# Altium footprint library CQFP_Sq_127P_Side_N.PcbLib: 8 footprints
Each footprint in its own frame and in the unit in brackets; x right, y up, seen from the top. Pads: shape width x height; smd on the part's side, far side on the other; paste and mask are expansions set on the pad; w line width, h text height; cw(c..) or ccw(c..) is an arc to the next point about the centre after c.
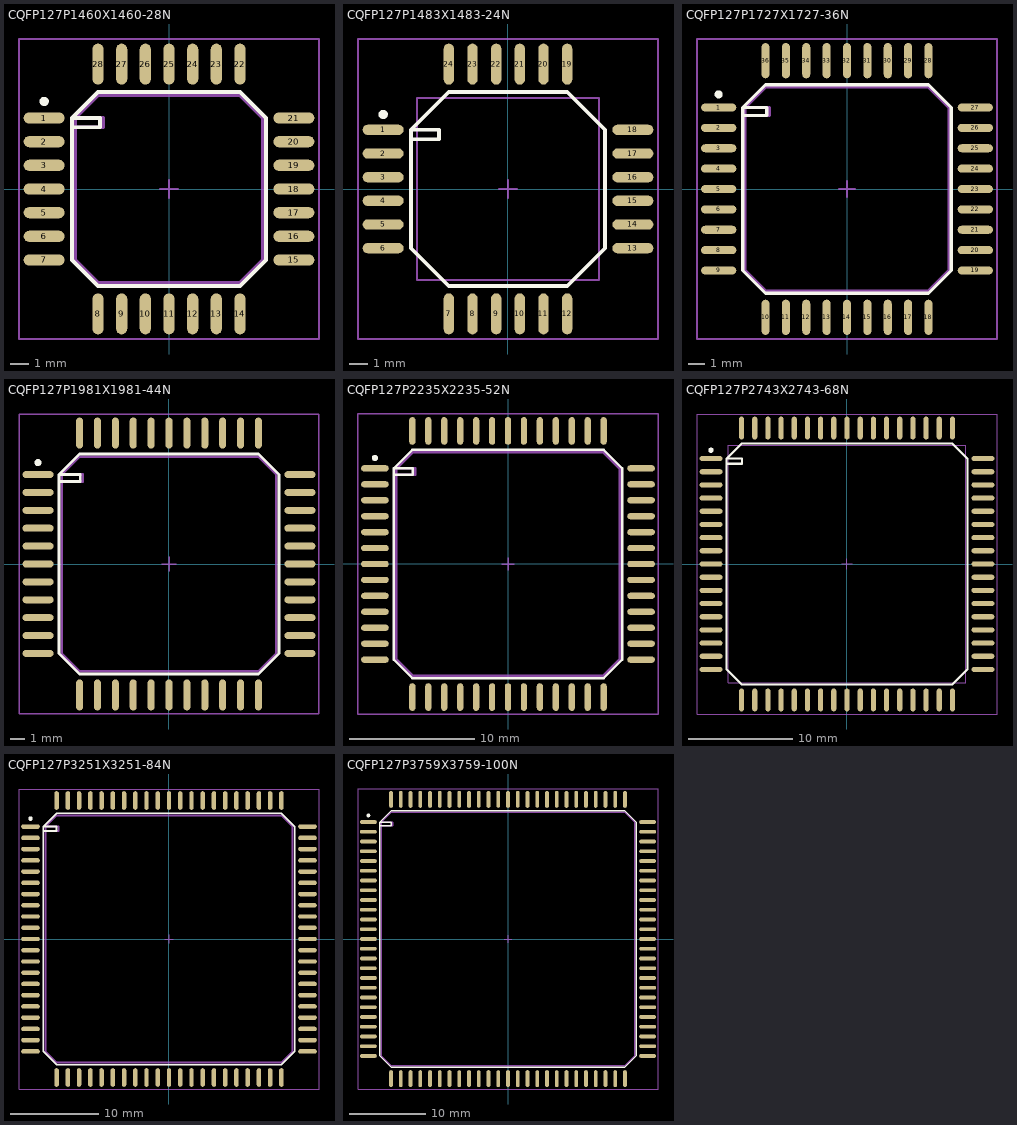
[diagram p0: the footprints below, top view; thin cyan lines are the x and y axes]

## CQFP127P1460X1460-28N [mm] "CQFP, 28-Leads, Body 10x10mm; Pitch 1.27mm, Gullwing Leadform, IPC Medium Density"
height 2.3
pads (28):
  oval 2.2x0.6 smd: 1(-6.703,3.815) 2(-6.703,2.545) 3(-6.703,1.275) 4(-6.703,0.005) 5(-6.703,-1.265) 6(-6.703,-2.535) 7(-6.703,-3.805) 15(6.697,-3.805) 16(6.697,-2.535) 17(6.697,-1.265) 18(6.697,0.005) 19(6.697,1.275) 20(6.697,2.545) 21(6.697,3.815)
  oval 0.6x2.2 smd: 8(-3.813,-6.695) 9(-2.543,-6.695) 10(-1.273,-6.695) 11(-0.003,-6.695) 12(1.267,-6.695) 13(2.537,-6.695) 14(3.807,-6.695) 22(3.807,6.705) 23(2.537,6.705) 24(1.267,6.705) 25(-0.003,6.705) 26(-1.273,6.705) 27(-2.543,6.705) 28(-3.813,6.705)
Top Overlay:
  circle w0.25: c-6.703,4.705 r0.125
  lines w0.2: -5.203,3.315 -3.703,3.315 -3.703,3.815 -5.203,3.815 ; -5.203,3.815 -3.813,5.205 3.807,5.205 5.197,3.815 5.197,-3.805 3.807,-5.195 -3.813,-5.195 -5.203,-3.805 -5.203,3.815
Mechanical 11:
  lines w0.001: -5.033,-3.805 -3.813,-5.025 3.807,-5.025 5.027,-3.805 5.027,3.815 3.807,5.035 -3.813,5.035 -5.033,3.815 -5.033,-3.805
Mechanical 13:
  lines w0.2: -5.033,3.315 -3.533,3.315 -3.533,3.815 -5.033,3.815 ; -5.033,3.815 -3.813,5.035 3.807,5.035 5.027,3.815 5.027,-3.805 3.807,-5.025 -3.813,-5.025 -5.033,-3.805 -5.033,3.815
Mechanical 15:
  lines w0.1: -0.503,0.005 0.497,0.005 ; -0.003,-0.495 -0.003,0.505 ; -8.053,-8.045 8.047,-8.045 8.047,8.055 -8.053,8.055 -8.053,-8.045
3D body: height 2.3, standoff 0, extent -5.033,-5.025 5.027,5.035

## CQFP127P1483X1483-24N [mm] "CQFP, 24-Leads, Body 10x10mm; Pitch 1.27mm, Gullwing Leadform, IPC Medium Density"
height 2.2
pads (24):
  oval 2.2x0.55 smd: 1(-6.7,3.175) 2(-6.7,1.905) 3(-6.7,0.635) 4(-6.7,-0.635) 5(-6.7,-1.905) 6(-6.7,-3.175) 13(6.7,-3.175) 14(6.7,-1.905) 15(6.7,-0.635) 16(6.7,0.635) 17(6.7,1.905) 18(6.7,3.175)
  oval 0.55x2.2 smd: 7(-3.175,-6.7) 8(-1.905,-6.7) 9(-0.635,-6.7) 10(0.635,-6.7) 11(1.905,-6.7) 12(3.175,-6.7) 19(3.175,6.7) 20(1.905,6.7) 21(0.635,6.7) 22(-0.635,6.7) 23(-1.905,6.7) 24(-3.175,6.7)
Top Overlay:
  circle w0.25: c-6.7,4 r0.125
  lines w0.2: -5.2,2.675 -3.7,2.675 -3.7,3.175 -5.2,3.175 ; -5.2,3.175 -5.2,-3.175 -3.175,-5.2 3.175,-5.2 5.2,-3.175 5.2,3.175 3.175,5.2 -3.175,5.2 -5.2,3.175
Mechanical 13:
  lines w0.1: -4.89,-4.89 -4.89,4.89 4.89,4.89 4.89,-4.89 -4.89,-4.89
Mechanical 15:
  lines w0.1: -0.5,0 0.5,0 ; 0,-0.5 0,0.5 ; -8.05,-8.05 -8.05,8.05 8.05,8.05 8.05,-8.05 -8.05,-8.05
3D body: height 2.2, standoff 0, extent -4.89,-4.89 4.89,4.89

## CQFP127P1727X1727-36N [mm] "CQFP, 36-Leads, Body 12x12mm; Pitch 1.27mm, Gullwing Leadform, IPC Medium Density"
height 5
pads (36):
  oval 2.2x0.5 smd: 1(-8.005,5.084) 2(-8.005,3.814) 3(-8.005,2.544) 4(-8.005,1.274) 5(-8.005,0.004) 6(-8.005,-1.266) 7(-8.005,-2.536) 8(-8.005,-3.806) 9(-8.005,-5.076) 19(7.995,-5.076) 20(7.995,-3.806) 21(7.995,-2.536) 22(7.995,-1.266) 23(7.995,0.004) 24(7.995,1.274) 25(7.995,2.544) 26(7.995,3.814) 27(7.995,5.084)
  oval 0.5x2.2 smd: 10(-5.085,-7.996) 11(-3.815,-7.996) 12(-2.545,-7.996) 13(-1.275,-7.996) 14(-0.005,-7.996) 15(1.265,-7.996) 16(2.535,-7.996) 17(3.805,-7.996) 18(5.075,-7.996) 28(5.075,8.004) 29(3.805,8.004) 30(2.535,8.004) 31(1.265,8.004) 32(-0.005,8.004) 33(-1.275,8.004) 34(-2.545,8.004) 35(-3.815,8.004) 36(-5.085,8.004)
Top Overlay:
  circle w0.25: c-8.005,5.904 r0.125
  lines w0.2: -6.505,4.584 -5.005,4.584 -5.005,5.084 -6.505,5.084 ; -6.505,5.084 -5.085,6.504 5.075,6.504 6.495,5.084 6.495,-5.076 5.075,-6.496 -5.085,-6.496 -6.505,-5.076 -6.505,5.084
Mechanical 11:
  lines w0.001: -6.355,-5.076 -5.085,-6.346 5.075,-6.346 6.345,-5.076 6.345,5.084 5.075,6.354 -5.085,6.354 -6.355,5.084 -6.355,-5.076
Mechanical 13:
  lines w0.2: -6.355,4.584 -4.855,4.584 -4.855,5.084 -6.355,5.084 ; -6.355,5.084 -5.085,6.354 5.075,6.354 6.345,5.084 6.345,-5.076 5.075,-6.346 -5.085,-6.346 -6.355,-5.076 -6.355,5.084
Mechanical 15:
  lines w0.1: -0.505,0.004 0.495,0.004 ; -0.005,-0.496 -0.005,0.504 ; -9.355,-9.346 9.345,-9.346 9.345,9.354 -9.355,9.354 -9.355,-9.346
3D body: height 5, standoff 0, extent -6.355,-6.346 6.345,6.354

## CQFP127P1981X1981-44N [mm] "CQFP, 44-Leads, Body 15x15mm; Pitch 1.27mm, Gullwing Leadform, IPC Medium Density"
height 5
pads (44):
  oval 2.2x0.5 smd: 1(-9.289,6.35) 2(-9.289,5.08) 3(-9.289,3.81) 4(-9.289,2.54) 5(-9.289,1.27) 6(-9.289,0) 7(-9.289,-1.27) 8(-9.289,-2.54) 9(-9.289,-3.81) 10(-9.289,-5.08) 11(-9.289,-6.35) 23(9.311,-6.35) 24(9.311,-5.08) 25(9.311,-3.81) 26(9.311,-2.54) 27(9.311,-1.27) 28(9.311,0) 29(9.311,1.27) 30(9.311,2.54) 31(9.311,3.81) 32(9.311,5.08) 33(9.311,6.35)
  oval 0.5x2.2 smd: 12(-6.339,-9.3) 13(-5.069,-9.3) 14(-3.799,-9.3) 15(-2.529,-9.3) 16(-1.259,-9.3) 17(0.011,-9.3) 18(1.281,-9.3) 19(2.551,-9.3) 20(3.821,-9.3) 21(5.091,-9.3) 22(6.361,-9.3) 34(6.361,9.3) 35(5.091,9.3) 36(3.821,9.3) 37(2.551,9.3) 38(1.281,9.3) 39(0.011,9.3) 40(-1.259,9.3) 41(-2.529,9.3) 42(-3.799,9.3) 43(-5.069,9.3) 44(-6.339,9.3)
Top Overlay:
  circle w0.25: c-9.289,7.2 r0.125
  lines w0.2: -7.789,5.85 -6.289,5.85 -6.289,6.35 -7.789,6.35 ; -7.789,6.35 -6.339,7.8 6.361,7.8 7.811,6.35 7.811,-6.35 6.361,-7.8 -6.339,-7.8 -7.789,-6.35 -7.789,6.35
Mechanical 11:
  lines w0.001: -7.609,-6.35 -6.339,-7.62 6.361,-7.62 7.631,-6.35 7.631,6.35 6.361,7.62 -6.339,7.62 -7.609,6.35 -7.609,-6.35
Mechanical 13:
  lines w0.2: -7.609,5.85 -6.109,5.85 -6.109,6.35 -7.609,6.35 ; -7.609,6.35 -6.339,7.62 6.361,7.62 7.631,6.35 7.631,-6.35 6.361,-7.62 -6.339,-7.62 -7.609,-6.35 -7.609,6.35
Mechanical 15:
  lines w0.1: -0.489,0 0.511,0 ; 0.011,-0.5 0.011,0.5 ; -10.639,-10.65 10.661,-10.65 10.661,10.65 -10.639,10.65 -10.639,-10.65
3D body: height 5, standoff 0, extent -7.609,-7.62 7.631,7.62

## CQFP127P2235X2235-52N [mm] "CQFP, 52-Leads, Body 17x17mm; Pitch 1.27mm, Gullwing Leadform, IPC Medium Density"
height 5
pads (52):
  oval 2.2x0.5 smd: 1(-10.602,7.614) 2(-10.602,6.344) 3(-10.602,5.074) 4(-10.602,3.804) 5(-10.602,2.534) 6(-10.602,1.264) 7(-10.602,-0.006) 8(-10.602,-1.276) 9(-10.602,-2.546) 10(-10.602,-3.816) 11(-10.602,-5.086) 12(-10.602,-6.356) 13(-10.602,-7.626) 27(10.598,-7.626) 28(10.598,-6.356) 29(10.598,-5.086) 30(10.598,-3.816) 31(10.598,-2.546) 32(10.598,-1.276) 33(10.598,-0.006) 34(10.598,1.264) 35(10.598,2.534) 36(10.598,3.804) 37(10.598,5.074) 38(10.598,6.344) 39(10.598,7.614)
  oval 0.5x2.2 smd: 14(-7.622,-10.606) 15(-6.352,-10.606) 16(-5.082,-10.606) 17(-3.812,-10.606) 18(-2.542,-10.606) 19(-1.272,-10.606) 20(-0.002,-10.606) 21(1.268,-10.606) 22(2.538,-10.606) 23(3.808,-10.606) 24(5.078,-10.606) 25(6.348,-10.606) 26(7.618,-10.606) 40(7.618,10.594) 41(6.348,10.594) 42(5.078,10.594) 43(3.808,10.594) 44(2.538,10.594) 45(1.268,10.594) 46(-0.002,10.594) 47(-1.272,10.594) 48(-2.542,10.594) 49(-3.812,10.594) 50(-5.082,10.594) 51(-6.352,10.594) 52(-7.622,10.594)
Top Overlay:
  circle w0.25: c-10.602,8.444 r0.125
  lines w0.2: -9.102,7.114 -7.602,7.114 -7.602,7.614 -9.102,7.614 ; -9.102,7.614 -7.622,9.094 7.618,9.094 9.098,7.614 9.098,-7.626 7.618,-9.106 -7.622,-9.106 -9.102,-7.626 -9.102,7.614
Mechanical 11:
  lines w0.001: -8.892,-7.626 -7.622,-8.896 7.618,-8.896 8.888,-7.626 8.888,7.614 7.618,8.884 -7.622,8.884 -8.892,7.614 -8.892,-7.626
Mechanical 13:
  lines w0.2: -8.892,7.114 -7.392,7.114 -7.392,7.614 -8.892,7.614 ; -8.892,7.614 -7.622,8.884 7.618,8.884 8.888,7.614 8.888,-7.626 7.618,-8.896 -7.622,-8.896 -8.892,-7.626 -8.892,7.614
Mechanical 15:
  lines w0.1: -0.502,-0.006 0.498,-0.006 ; -0.002,-0.506 -0.002,0.494 ; -11.952,-11.956 11.948,-11.956 11.948,11.944 -11.952,11.944 -11.952,-11.956
3D body: height 5, standoff 0, extent -8.892,-8.896 8.888,8.884

## CQFP127P2743X2743-68N [mm] "CQFP, 68-Leads, Body 22x22mm; Pitch 1.27mm, Gullwing Leadform, IPC Medium Density"
height 5
pads (68):
  oval 2.2x0.5 smd: 1(-13.1,10.16) 2(-13.1,8.89) 3(-13.1,7.62) 4(-13.1,6.35) 5(-13.1,5.08) 6(-13.1,3.81) 7(-13.1,2.54) 8(-13.1,1.27) 9(-13.1,0) 10(-13.1,-1.27) 11(-13.1,-2.54) 12(-13.1,-3.81) 13(-13.1,-5.08) 14(-13.1,-6.35) 15(-13.1,-7.62) 16(-13.1,-8.89) 17(-13.1,-10.16) 35(13.1,-10.16) 36(13.1,-8.89) 37(13.1,-7.62) 38(13.1,-6.35) 39(13.1,-5.08) 40(13.1,-3.81) 41(13.1,-2.54) 42(13.1,-1.27) 43(13.1,0) 44(13.1,1.27) 45(13.1,2.54) 46(13.1,3.81) 47(13.1,5.08) 48(13.1,6.35) 49(13.1,7.62) 50(13.1,8.89) 51(13.1,10.16)
  oval 0.5x2.2 smd: 18(-10.16,-13.1) 19(-8.89,-13.1) 20(-7.62,-13.1) 21(-6.35,-13.1) 22(-5.08,-13.1) 23(-3.81,-13.1) 24(-2.54,-13.1) 25(-1.27,-13.1) 26(0,-13.1) 27(1.27,-13.1) 28(2.54,-13.1) 29(3.81,-13.1) 30(5.08,-13.1) 31(6.35,-13.1) 32(7.62,-13.1) 33(8.89,-13.1) 34(10.16,-13.1) 52(10.16,13.1) 53(8.89,13.1) 54(7.62,13.1) 55(6.35,13.1) 56(5.08,13.1) 57(3.81,13.1) 58(2.54,13.1) 59(1.27,13.1) 60(0,13.1) 61(-1.27,13.1) 62(-2.54,13.1) 63(-3.81,13.1) 64(-5.08,13.1) 65(-6.35,13.1) 66(-7.62,13.1) 67(-8.89,13.1) 68(-10.16,13.1)
Top Overlay:
  circle w0.25: c-13.1,10.96 r0.125
  lines w0.2: -11.6,9.66 -10.1,9.66 -10.1,10.16 -11.6,10.16 ; -11.6,10.16 -11.6,-10.16 -10.16,-11.6 10.16,-11.6 11.6,-10.16 11.6,10.16 10.16,11.6 -10.16,11.6 -11.6,10.16
Mechanical 13:
  lines w0.1: -11.43,-11.43 -11.43,11.43 11.43,11.43 11.43,-11.43 -11.43,-11.43
Mechanical 15:
  lines w0.1: -0.5,0 0.5,0 ; 0,-0.5 0,0.5 ; -14.45,-14.45 -14.45,14.45 14.45,14.45 14.45,-14.45 -14.45,-14.45
3D body: height 5, standoff 0, extent -11.43,-11.43 11.43,11.43

## CQFP127P3251X3251-84N [mm] "CQFP, 84-Leads, Body 27x27mm; Pitch 1.27mm, Gullwing Leadform, IPC Medium Density"
height 5
pads (84):
  oval 2.1x0.5 smd: 1(-15.646,12.703) 2(-15.646,11.433) 3(-15.646,10.163) 4(-15.646,8.893) 5(-15.646,7.623) 6(-15.646,6.353) 7(-15.646,5.083) 8(-15.646,3.813) 9(-15.646,2.543) 10(-15.646,1.273) 11(-15.646,0.003) 12(-15.646,-1.267) 13(-15.646,-2.537) 14(-15.646,-3.807) 15(-15.646,-5.077) 16(-15.646,-6.347) 17(-15.646,-7.617) 18(-15.646,-8.887) 19(-15.646,-10.157) 20(-15.646,-11.427) 21(-15.646,-12.697) 43(15.654,-12.697) 44(15.654,-11.427) 45(15.654,-10.157) 46(15.654,-8.887) 47(15.654,-7.617) 48(15.654,-6.347) 49(15.654,-5.077) 50(15.654,-3.807) 51(15.654,-2.537) 52(15.654,-1.267) 53(15.654,0.003) 54(15.654,1.273) 55(15.654,2.543) 56(15.654,3.813) 57(15.654,5.083) 58(15.654,6.353) 59(15.654,7.623) 60(15.654,8.893) 61(15.654,10.163) 62(15.654,11.433) 63(15.654,12.703)
  oval 0.5x2.1 smd: 22(-12.696,-15.647) 23(-11.426,-15.647) 24(-10.156,-15.647) 25(-8.886,-15.647) 26(-7.616,-15.647) 27(-6.346,-15.647) 28(-5.076,-15.647) 29(-3.806,-15.647) 30(-2.536,-15.647) 31(-1.266,-15.647) 32(0.004,-15.647) 33(1.274,-15.647) 34(2.544,-15.647) 35(3.814,-15.647) 36(5.084,-15.647) 37(6.354,-15.647) 38(7.624,-15.647) 39(8.894,-15.647) 40(10.164,-15.647) 41(11.434,-15.647) 42(12.704,-15.647) 64(12.704,15.653) 65(11.434,15.653) 66(10.164,15.653) 67(8.894,15.653) 68(7.624,15.653) 69(6.354,15.653) 70(5.084,15.653) 71(3.814,15.653) 72(2.544,15.653) 73(1.274,15.653) 74(0.004,15.653) 75(-1.266,15.653) 76(-2.536,15.653) 77(-3.806,15.653) 78(-5.076,15.653) 79(-6.346,15.653) 80(-7.616,15.653) 81(-8.886,15.653) 82(-10.156,15.653) 83(-11.426,15.653) 84(-12.696,15.653)
Top Overlay:
  circle w0.25: c-15.646,13.603 r0.125
  lines w0.2: -14.196,12.203 -12.696,12.203 -12.696,12.703 -14.196,12.703 ; -14.196,12.703 -14.196,-12.697 -12.696,-14.197 12.704,-14.197 14.204,-12.697 14.204,12.703 12.704,14.203 -12.696,14.203 -14.196,12.703
Mechanical 11:
  lines w0.001: -13.966,-12.697 -13.966,12.703 -12.696,13.973 12.704,13.973 13.974,12.703 13.974,-12.697 12.704,-13.967 -12.696,-13.967 -13.966,-12.697
Mechanical 13:
  lines w0.2: -13.966,12.203 -12.466,12.203 -12.466,12.703 -13.966,12.703 ; -13.966,12.703 -13.966,-12.697 -12.696,-13.967 12.704,-13.967 13.974,-12.697 13.974,12.703 12.704,13.973 -12.696,13.973 -13.966,12.703
Mechanical 15:
  lines w0.1: -0.496,0.003 0.504,0.003 ; 0.004,-0.497 0.004,0.503 ; -16.946,-16.947 -16.946,16.953 16.954,16.953 16.954,-16.947 -16.946,-16.947
3D body: height 5, standoff 0, extent -13.966,-13.967 13.974,13.973

## CQFP127P3759X3759-100N [mm] "CQFP, 100-Leads, Body 33x33mm; Pitch 1.27mm, Gullwing Leadform, IPC Medium Density"
height 5
pads (100):
  oval 2.2x0.5 smd: 1(-18.208,15.242) 2(-18.208,13.972) 3(-18.208,12.702) 4(-18.208,11.432) 5(-18.208,10.162) 6(-18.208,8.892) 7(-18.208,7.622) 8(-18.208,6.352) 9(-18.208,5.082) 10(-18.208,3.812) 11(-18.208,2.542) 12(-18.208,1.272) 13(-18.208,0.002) 14(-18.208,-1.268) 15(-18.208,-2.538) 16(-18.208,-3.808) 17(-18.208,-5.078) 18(-18.208,-6.348) 19(-18.208,-7.618) 20(-18.208,-8.888) 21(-18.208,-10.158) 22(-18.208,-11.428) 23(-18.208,-12.698) 24(-18.208,-13.968) 25(-18.208,-15.238) 51(18.192,-15.238) 52(18.192,-13.968) 53(18.192,-12.698) 54(18.192,-11.428) 55(18.192,-10.158) 56(18.192,-8.888) 57(18.192,-7.618) 58(18.192,-6.348) 59(18.192,-5.078) 60(18.192,-3.808) 61(18.192,-2.538) 62(18.192,-1.268) 63(18.192,0.002) 64(18.192,1.272) 65(18.192,2.542) 66(18.192,3.812) 67(18.192,5.082) 68(18.192,6.352) 69(18.192,7.622) 70(18.192,8.892) 71(18.192,10.162) 72(18.192,11.432) 73(18.192,12.702) 74(18.192,13.972) 75(18.192,15.242)
  oval 0.5x2.2 smd: 26(-15.248,-18.198) 27(-13.978,-18.198) 28(-12.708,-18.198) 29(-11.438,-18.198) 30(-10.168,-18.198) 31(-8.898,-18.198) 32(-7.628,-18.198) 33(-6.358,-18.198) 34(-5.088,-18.198) 35(-3.818,-18.198) 36(-2.548,-18.198) 37(-1.278,-18.198) 38(-0.008,-18.198) 39(1.262,-18.198) 40(2.532,-18.198) 41(3.802,-18.198) 42(5.072,-18.198) 43(6.342,-18.198) 44(7.612,-18.198) 45(8.882,-18.198) 46(10.152,-18.198) 47(11.422,-18.198) 48(12.692,-18.198) 49(13.962,-18.198) 50(15.232,-18.198) 76(15.232,18.202) 77(13.962,18.202) 78(12.692,18.202) 79(11.422,18.202) 80(10.152,18.202) 81(8.882,18.202) 82(7.612,18.202) 83(6.342,18.202) 84(5.072,18.202) 85(3.802,18.202) 86(2.532,18.202) 87(1.262,18.202) 88(-0.008,18.202) 89(-1.278,18.202) 90(-2.548,18.202) 91(-3.818,18.202) 92(-5.088,18.202) 93(-6.358,18.202) 94(-7.628,18.202) 95(-8.898,18.202) 96(-10.168,18.202) 97(-11.438,18.202) 98(-12.708,18.202) 99(-13.978,18.202) 100(-15.248,18.202)
Top Overlay:
  circle w0.25: c-18.208,16.102 r0.125
  lines w0.2: -16.708,14.742 -15.208,14.742 -15.208,15.242 -16.708,15.242 ; -16.708,15.242 -16.708,-15.238 -15.248,-16.698 15.232,-16.698 16.692,-15.238 16.692,15.242 15.232,16.702 -15.248,16.702 -16.708,15.242
Mechanical 11:
  lines w0.001: -16.518,-15.238 -16.518,15.242 -15.248,16.512 15.232,16.512 16.502,15.242 16.502,-15.238 15.232,-16.508 -15.248,-16.508 -16.518,-15.238
Mechanical 13:
  lines w0.2: -16.518,14.742 -15.018,14.742 -15.018,15.242 -16.518,15.242 ; -16.518,15.242 -16.518,-15.238 -15.248,-16.508 15.232,-16.508 16.502,-15.238 16.502,15.242 15.232,16.512 -15.248,16.512 -16.518,15.242
Mechanical 15:
  lines w0.1: -0.508,0.002 0.492,0.002 ; -0.008,-0.498 -0.008,0.502 ; -19.558,-19.548 -19.558,19.552 19.542,19.552 19.542,-19.548 -19.558,-19.548
3D body: height 5, standoff 0, extent -16.518,-16.508 16.502,16.512